# EAGLE library part LTC6228 (library Oscilloscope_Components v39)
Highspeed Op Amp for Differential to Single-Ended Conversion
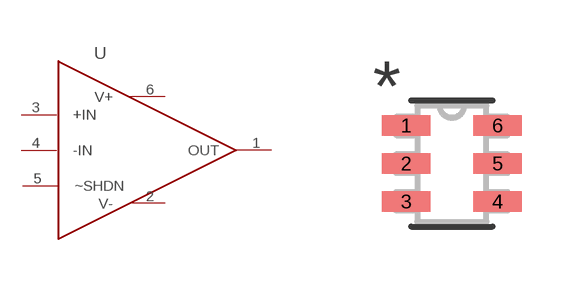
[diagram p1: symbol with the pads of TSOT-23_S6; footprint TSOT-23_S6]

Designator prefix -

## LTC6228  [TSOT-23_S6]
1  OUT
2  V-
3  +IN
4  -IN
5  ~SHDN
6  V+

## Footprint TSOT-23_S6 (pad centres in mm)
smd 1.219 x 0.508: 1 -1.143,0.95; 2 -1.143,0; 3 -1.143,-0.95; 4 1.143,-0.95; 5 1.143,0; 6 1.143,0.95